# Altium footprint library PH2.0.PcbLib: 65 footprints (part 3 of 5)
Each footprint in its own frame and in the unit in brackets; x right, y up, seen from the top. Pads: shape width x height; smd on the part's side, far side on the other; paste and mask are expansions set on the pad; w line width, h text height; cw(c..) or ccw(c..) is an arc to the next point about the centre after c.
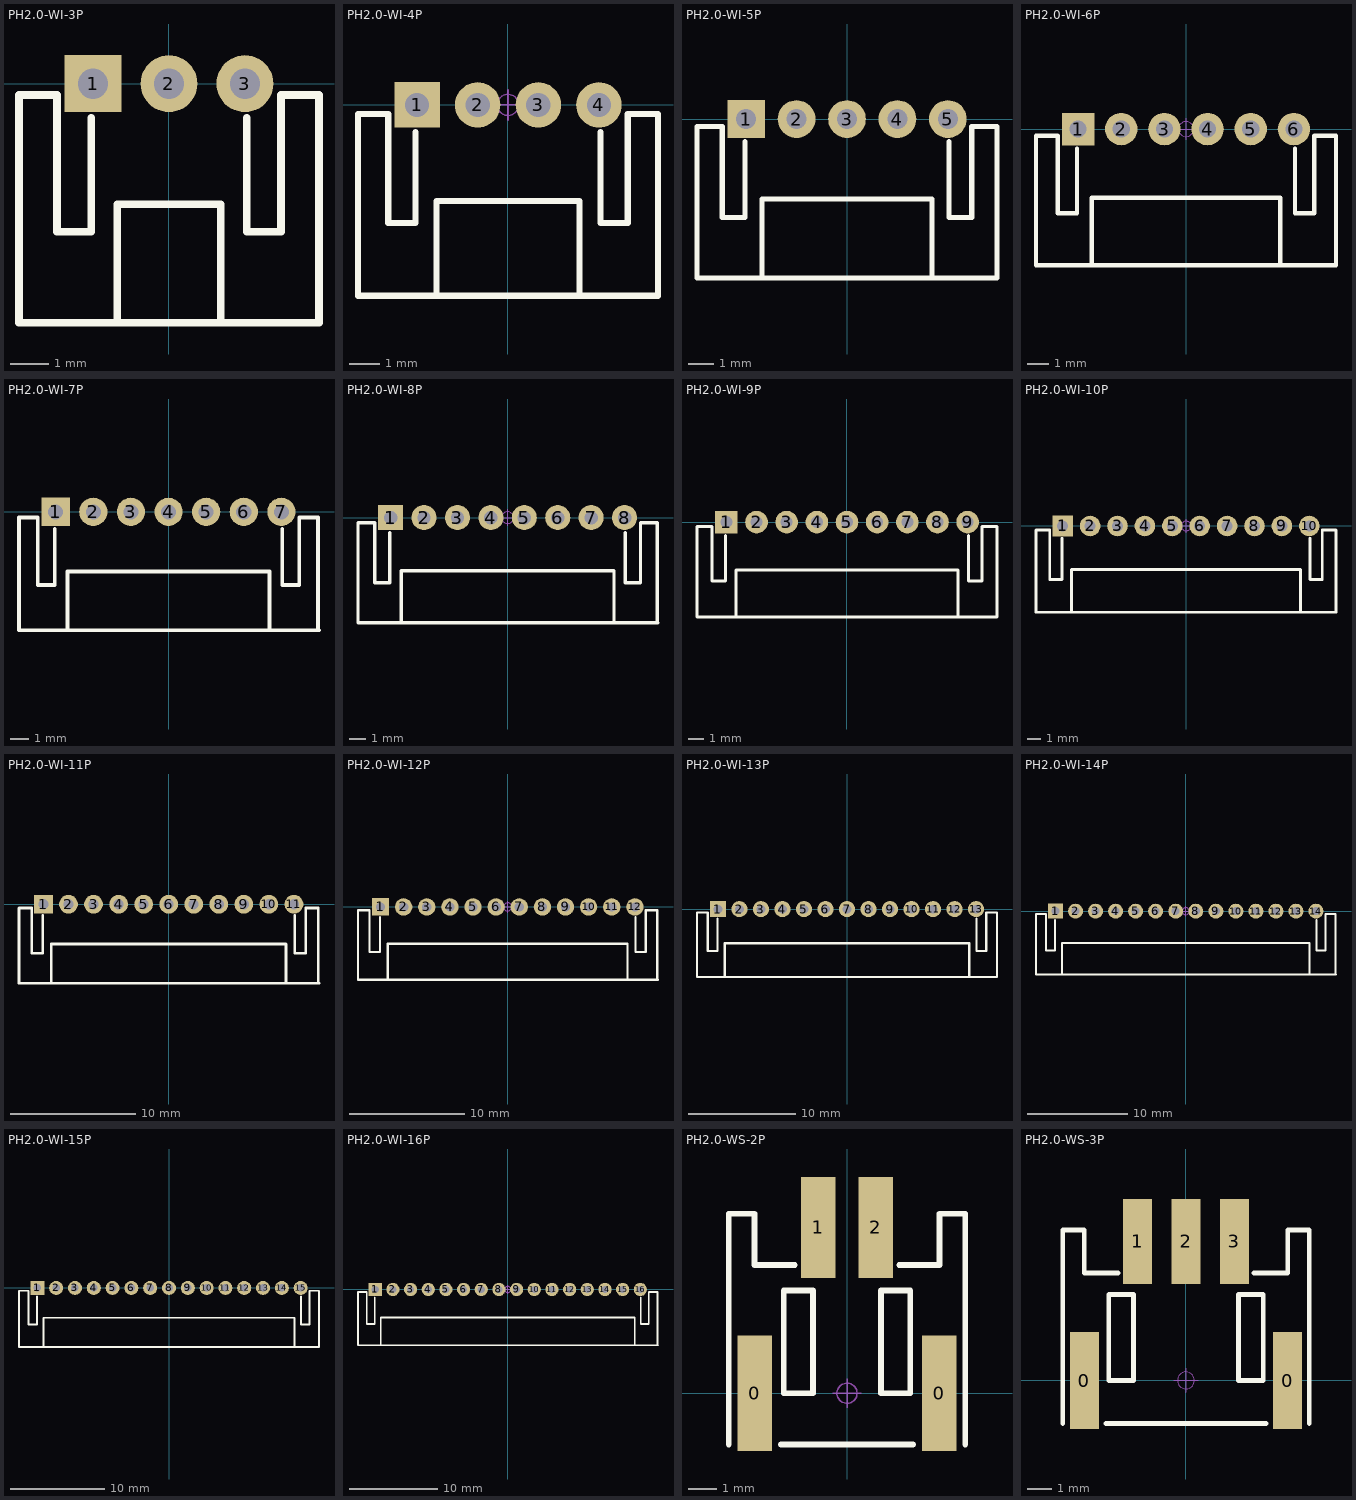
[diagram p2: the footprints below, top view; thin cyan lines are the x and y axes]

## PH2.0-WI-3P [mm] "长：7.9mm，宽：6mm，高：4.7mm"
height 10
pads (3):
  rect 1.5x1.5 hole 0.8: 1(-2,0)
  round 1.5 hole 0.8: 2(0,0) 3(2,0)
Top Overlay:
  lines w0.203: -2.05,-0.9 -2.05,-3.9 -2.95,-3.9 -2.95,-3.3 -2.95,-0.3 -3,-0.3 -3.95,-0.3 -3.95,-6.3 3.95,-6.3 3.95,-0.3 3,-0.3 2.95,-0.3 2.95,-3.3 2.95,-3.9 2.05,-3.9 2.05,-0.9 ; -1.365,-6.215 -1.365,-3.175 1.365,-3.175 1.365,-6.215
Mechanical 15:
  circle w0.05: c0,0 r0.35
  lines w0.05: -0.5,0 0.5,0 ; 0,-0.5 0,0.5
3D body "PH2.0-WI-3P.STEP": height 4.75, standoff -2.65, extent -3.95,-6.3 3.95,0.3

## PH2.0-WI-4P [mm] "长：9.9mm，宽：6mm，高：4.7mm"
height 10
pads (4):
  rect 1.5x1.5 hole 0.8: 1(-3,0)
  round 1.5 hole 0.8: 2(-1,0) 3(1,0) 4(3,0)
Top Overlay:
  lines w0.203: -3.05,-0.9 -3.05,-3.9 -3.95,-3.9 -3.95,-3.3 -3.95,-0.3 -4,-0.3 -4.95,-0.3 -4.95,-6.3 4.95,-6.3 4.95,-0.3 4,-0.3 3.95,-0.3 3.95,-3.3 3.95,-3.9 3.05,-3.9 3.05,-0.9 ; -2.365,-6.215 -2.365,-3.175 2.365,-3.175 2.365,-6.215
Mechanical 15:
  circle w0.05: c0,0 r0.35
  lines w0.05: -0.5,0 0.5,0 ; 0,-0.5 0,0.5
3D body "PH2.0-WI-4P.STEP": height 4.75, standoff -2.65, extent -4.95,-6.3 4.95,0.3

## PH2.0-WI-5P [mm] "长：11.9mm，宽：6mm，高：4.7mm"
height 10
pads (5):
  rect 1.5x1.5 hole 0.8: 1(-4,0)
  round 1.5 hole 0.8: 2(-2,0) 3(0,0) 4(2,0) 5(4,0)
Top Overlay:
  lines w0.203: -4.05,-0.9 -4.05,-3.9 -4.95,-3.9 -4.95,-3.3 -4.95,-0.3 -5,-0.3 -5.95,-0.3 -5.95,-6.3 5.95,-6.3 5.95,-0.3 5,-0.3 4.95,-0.3 4.95,-3.3 4.95,-3.9 4.05,-3.9 4.05,-0.9 ; -3.365,-6.215 -3.365,-3.175 3.365,-3.175 3.365,-6.215
Mechanical 15:
  circle w0.05: c0,0 r0.35
  lines w0.05: -0.5,0 0.5,0 ; 0,-0.5 0,0.5
3D body "PH2.0-WI-5P.STEP": height 4.75, standoff -2.65, extent -5.95,-6.3 5.95,0.3

## PH2.0-WI-6P [mm] "长：13.9mm，宽：6mm，高：4.7mm"
height 10
pads (6):
  rect 1.5x1.5 hole 0.8: 1(-5,0)
  round 1.5 hole 0.8: 2(-3,0) 3(-1,0) 4(1,0) 5(3,0) 6(5,0)
Top Overlay:
  lines w0.203: -5.05,-0.9 -5.05,-3.9 -5.95,-3.9 -5.95,-3.3 -5.95,-0.3 -6,-0.3 -6.95,-0.3 -6.95,-6.3 6.95,-6.3 6.95,-0.3 6,-0.3 5.95,-0.3 5.95,-3.3 5.95,-3.9 5.05,-3.9 5.05,-0.9 ; -4.365,-6.215 -4.365,-3.175 4.365,-3.175 4.365,-6.215
Mechanical 15:
  circle w0.05: c0,0 r0.35
  lines w0.05: -0.5,0 0.5,0 ; 0,-0.5 0,0.5
3D body "PH2.0-WI-6P.STEP": height 4.75, standoff -2.65, extent -6.95,-6.3 6.95,0.3

## PH2.0-WI-7P [mm] "长：15.9mm，宽：6mm，高：4.7mm"
height 10
pads (7):
  rect 1.5x1.5 hole 0.8: 1(-6,0)
  round 1.5 hole 0.8: 2(-4,0) 3(-2,0) 4(0,0) 5(2,0) 6(4,0) 7(6,0)
Top Overlay:
  lines w0.203: -6.05,-0.9 -6.05,-3.9 -6.95,-3.9 -6.95,-3.3 -6.95,-0.3 -7,-0.3 -7.95,-0.3 -7.95,-6.3 8,-6.3 ; -5.365,-6.215 -5.365,-3.175 5.365,-3.175 5.365,-6.215 ; 6.05,-0.9 6.05,-3.9 6.95,-3.9 6.95,-3.3 6.95,-0.3 7,-0.3 7.95,-0.3 7.95,-6.3
Mechanical 15:
  circle w0.05: c0,0 r0.35
  lines w0.05: -0.5,0 0.5,0 ; 0,-0.5 0,0.5
3D body "PH2.0-WI-7P.STEP": height 4.75, standoff -2.65, extent -7.95,-6.3 7.95,0.3

## PH2.0-WI-8P [mm] "长：17.9mm，宽：6mm，高：4.7mm"
height 10
pads (8):
  rect 1.5x1.5 hole 0.8: 1(-7,0)
  round 1.5 hole 0.8: 2(-5,0) 3(-3,0) 4(-1,0) 5(1,0) 6(3,0) 7(5,0) 8(7,0)
Top Overlay:
  lines w0.203: -7.05,-0.9 -7.05,-3.9 -7.95,-3.9 -7.95,-3.3 -7.95,-0.3 -8,-0.3 -8.95,-0.3 -8.95,-6.3 9,-6.3 ; -6.365,-6.215 -6.365,-3.175 6.365,-3.175 6.365,-6.215 ; 7.05,-0.9 7.05,-3.9 7.95,-3.9 7.95,-3.3 7.95,-0.3 8,-0.3 8.95,-0.3 8.95,-6.3
Mechanical 15:
  circle w0.05: c0,0 r0.35
  lines w0.05: -0.5,0 0.5,0 ; 0,-0.5 0,0.5
3D body "PH2.0-WI-8P.STEP": height 4.75, standoff -2.65, extent -8.95,-6.3 8.95,0.3

## PH2.0-WI-9P [mm] "长：19.9mm，宽：6mm，高：4.7mm"
height 10
pads (9):
  rect 1.5x1.5 hole 0.8: 1(-8,0)
  round 1.5 hole 0.8: 2(-6,0) 3(-4,0) 4(-2,0) 5(0,0) 6(2,0) 7(4,0) 8(6,0) 9(8,0)
Top Overlay:
  lines w0.203: -8.05,-0.9 -8.05,-3.9 -8.95,-3.9 -8.95,-3.3 -8.95,-0.3 -9,-0.3 -9.95,-0.3 -9.95,-6.3 9.95,-6.3 9.95,-0.3 9,-0.3 8.95,-0.3 8.95,-3.3 8.95,-3.9 8.05,-3.9 8.05,-0.9 ; -7.365,-6.215 -7.365,-3.175 7.365,-3.175 7.365,-6.215
Mechanical 15:
  circle w0.05: c0,0 r0.35
  lines w0.05: -0.5,0 0.5,0 ; 0,-0.5 0,0.5
3D body "PH2.0-WI-9P.STEP": height 4.75, standoff -2.65, extent -9.95,-6.3 9.95,0.3

## PH2.0-WI-10P [mm] "长：21.9mm，宽：6mm，高：4.7mm"
height 10
pads (10):
  rect 1.5x1.5 hole 0.8: 1(-9,0)
  round 1.5 hole 0.8: 2(-7,0) 3(-5,0) 4(-3,0) 5(-1,0) 6(1,0) 7(3,0) 8(5,0) 9(7,0) 10(9,0)
Top Overlay:
  lines w0.203: -9.05,-0.9 -9.05,-3.9 -9.95,-3.9 -9.95,-3.3 -9.95,-0.3 -10,-0.3 -10.95,-0.3 -10.95,-6.3 10.95,-6.3 10.95,-0.3 10,-0.3 9.95,-0.3 9.95,-3.3 9.95,-3.9 9.05,-3.9 9.05,-0.9 ; -8.365,-6.215 -8.365,-3.175 8.365,-3.175 8.365,-6.215
Mechanical 15:
  circle w0.05: c0,0 r0.35
  lines w0.05: -0.5,0 0.5,0 ; 0,-0.5 0,0.5
3D body "PH2.0-WI-10P.STEP": height 4.75, standoff -2.65, extent -10.95,-6.3 10.95,0.3

## PH2.0-WI-11P [mm] "长：23.9mm，宽：6mm，高：4.7mm"
height 10
pads (11):
  rect 1.5x1.5 hole 0.8: 1(-10,0)
  round 1.5 hole 0.8: 2(-8,0) 3(-6,0) 4(-4,0) 5(-2,0) 6(0,0) 7(2,0) 8(4,0) 9(6,0) 10(8,0) 11(10,0)
Top Overlay:
  lines w0.203: -10.05,-0.9 -10.05,-3.9 -10.95,-3.9 -10.95,-3.3 -10.95,-0.3 -11,-0.3 -11.95,-0.3 -11.95,-6.3 12,-6.3 ; -9.365,-6.215 -9.365,-3.175 9.365,-3.175 9.365,-6.215 ; 10.05,-0.9 10.05,-3.9 10.95,-3.9 10.95,-3.3 10.95,-0.3 11,-0.3 11.95,-0.3 11.95,-6.3
Mechanical 15:
  circle w0.05: c0,0 r0.35
  lines w0.05: -0.5,0 0.5,0 ; 0,-0.5 0,0.5
3D body "PH2.0-WI-11P.STEP": height 4.75, standoff -2.65, extent -11.95,-6.3 11.95,0.3

## PH2.0-WI-12P [mm] "长：25.9mm，宽：6mm，高：4.7mm"
height 10
pads (12):
  rect 1.5x1.5 hole 0.8: 1(-11,0)
  round 1.5 hole 0.8: 2(-9,0) 3(-7,0) 4(-5,0) 5(-3,0) 6(-1,0) 7(1,0) 8(3,0) 9(5,0) 10(7,0) 11(9,0) 12(11,0)
Top Overlay:
  lines w0.203: -11.05,-0.9 -11.05,-3.9 -11.95,-3.9 -11.95,-3.3 -11.95,-0.3 -12,-0.3 -12.95,-0.3 -12.95,-6.3 13,-6.3 ; -10.365,-6.215 -10.365,-3.175 10.365,-3.175 10.365,-6.215 ; 11.05,-0.9 11.05,-3.9 11.95,-3.9 11.95,-3.3 11.95,-0.3 12,-0.3 12.95,-0.3 12.95,-6.3
Mechanical 15:
  circle w0.05: c0,0 r0.35
  lines w0.05: -0.5,0 0.5,0 ; 0,-0.5 0,0.5
3D body "PH2.0-WI-12P.STEP": height 4.75, standoff -2.65, extent -12.95,-6.3 12.95,0.3

## PH2.0-WI-13P [mm] "长：27.9mm，宽：6mm，高：4.7mm"
height 10
pads (13):
  rect 1.5x1.5 hole 0.8: 1(-12,0)
  round 1.5 hole 0.8: 2(-10,0) 3(-8,0) 4(-6,0) 5(-4,0) 6(-2,0) 7(0,0) 8(2,0) 9(4,0) 10(6,0) 11(8,0) 12(10,0) 13(12,0)
Top Overlay:
  lines w0.203: -12.05,-0.9 -12.05,-3.9 -12.95,-3.9 -12.95,-3.3 -12.95,-0.3 -13,-0.3 -13.95,-0.3 -13.95,-6.3 13.95,-6.3 13.95,-0.3 13,-0.3 12.95,-0.3 12.95,-3.3 12.95,-3.9 12.05,-3.9 12.05,-0.9 ; -11.365,-6.215 -11.365,-3.175 11.365,-3.175 11.365,-6.215
Mechanical 15:
  circle w0.05: c0,0 r0.35
  lines w0.05: -0.5,0 0.5,0 ; 0,-0.5 0,0.5
3D body "PH2.0-WI-13P.STEP": height 4.75, standoff -2.65, extent -13.95,-6.3 13.95,0.3

## PH2.0-WI-14P [mm] "长：29.9mm，宽：6mm，高：4.7mm"
height 10
pads (14):
  rect 1.5x1.5 hole 0.8: 1(-13,0)
  round 1.5 hole 0.8: 2(-11,0) 3(-9,0) 4(-7,0) 5(-5,0) 6(-3,0) 7(-1,0) 8(1,0) 9(3,0) 10(5,0) 11(7,0) 12(9,0) 13(11,0) 14(13,0)
Top Overlay:
  lines w0.203: -13.05,-0.9 -13.05,-3.9 -13.95,-3.9 -13.95,-3.3 -13.95,-0.3 -14,-0.3 -14.95,-0.3 -14.95,-6.3 15,-6.3 ; -12.365,-6.215 -12.365,-3.175 12.365,-3.175 12.365,-6.215 ; 13.05,-0.9 13.05,-3.9 13.95,-3.9 13.95,-3.3 13.95,-0.3 14,-0.3 14.95,-0.3 14.95,-6.3
Mechanical 15:
  circle w0.05: c0,0 r0.35
  lines w0.05: -0.5,0 0.5,0 ; 0,-0.5 0,0.5
3D body "PH2.0-WI-14P.STEP": height 4.75, standoff -2.65, extent -14.95,-6.3 14.95,0.3

## PH2.0-WI-15P [mm] "长：31.9mm，宽：6mm，高：4.7mm"
height 10
pads (15):
  rect 1.5x1.5 hole 0.8: 1(-14,0)
  round 1.5 hole 0.8: 2(-12,0) 3(-10,0) 4(-8,0) 5(-6,0) 6(-4,0) 7(-2,0) 8(0,0) 9(2,0) 10(4,0) 11(6,0) 12(8,0) 13(10,0) 14(12,0) 15(14,0)
Top Overlay:
  lines w0.203: -14.05,-0.9 -14.05,-3.9 -14.95,-3.9 -14.95,-3.3 -14.95,-0.3 -15,-0.3 -15.95,-0.3 -15.95,-6.3 15.95,-6.3 15.95,-0.3 15,-0.3 14.95,-0.3 14.95,-3.3 14.95,-3.9 14.05,-3.9 14.05,-0.9 ; -13.365,-6.215 -13.365,-3.175 13.365,-3.175 13.365,-6.215
Mechanical 15:
  circle w0.05: c0,0 r0.35
  lines w0.05: -0.5,0 0.5,0 ; 0,-0.5 0,0.5
3D body "PH2.0-WI-15P.STEP": height 4.75, standoff -2.65, extent -15.95,-6.3 15.95,0.3

## PH2.0-WI-16P [mm] "长：33.9mm，宽：6mm，高：4.7mm"
height 10
pads (16):
  rect 1.5x1.5 hole 0.8: 1(-15,0)
  round 1.5 hole 0.8: 2(-13,0) 3(-11,0) 4(-9,0) 5(-7,0) 6(-5,0) 7(-3,0) 8(-1,0) 9(1,0) 10(3,0) 11(5,0) 12(7,0) 13(9,0) 14(11,0) 15(13,0) 16(15,0)
Top Overlay:
  lines w0.203: -15.05,-0.9 -15.05,-3.9 -15.95,-3.9 -15.95,-3.3 -15.95,-0.3 -16,-0.3 -16.95,-0.3 -16.95,-6.3 17,-6.3 ; -14.365,-6.215 -14.365,-3.175 14.365,-3.175 14.365,-6.215 ; 15.05,-0.9 15.05,-3.9 15.95,-3.9 15.95,-3.3 15.95,-0.3 16,-0.3 16.95,-0.3 16.95,-6.3
Mechanical 15:
  circle w0.05: c0,0 r0.35
  lines w0.05: -0.5,0 0.5,0 ; 0,-0.5 0,0.5
3D body "PH2.0-WI-16P.STEP": height 4.75, standoff -2.65, extent -16.95,-6.3 16.95,0.3

## PH2.0-WS-2P [mm] "长：8mm，宽：7.6mm，高：5.5mm"
pads (4):
  rect 1.2x4 smd: 0(-3.2,-0.006) 0(3.2,-0.006)
  rect 1.2x3.5 smd: 1(-1,5.744) 2(1,5.744)
Top Overlay:
  lines w0.2: -4.096,-1.778 -4.096,6.223 -3.207,6.223 -3.207,4.445 -1.81,4.445 ; -2.286,-1.778 2.286,-1.778 ; 1.81,4.445 3.207,4.445 3.207,6.223 4.096,6.223 4.096,-1.778 ; -2.191,0 -2.191,3.556 -1.175,3.556 -1.175,0 -2.191,0 ; 1.175,0 1.175,3.556 2.191,3.556 2.191,0 1.175,0
Mechanical 15:
  circle w0.05: c0,0 r0.35
  lines w0.05: -0.5,0 0.5,0 ; 0,-0.5 0,0.5
3D body "PH2.0 SMD-W-2P.STEP": height 5.55, standoff 0.05, extent -4,-1.65 4,6.95

## PH2.0-WS-3P [mm] "长：10mm，宽：7.6mm，高：5.5mm"
pads (5):
  rect 1.2x4 smd: 0(-4.2,-0.006) 0(4.2,-0.006)
  rect 1.2x3.5 smd: 1(-2,5.744) 2(0,5.744) 3(2,5.744)
Top Overlay:
  lines w0.2: -5.096,-1.778 -5.096,6.223 -4.207,6.223 -4.207,4.445 -2.81,4.445 ; -3.302,-1.778 3.302,-1.778 ; 2.81,4.445 4.207,4.445 4.207,6.223 5.096,6.223 5.096,-1.778 ; -3.191,0 -2.175,0 -2.175,3.556 -3.191,3.556 -3.191,0 ; 2.175,0 3.191,0 3.191,3.556 2.175,3.556 2.175,0
Mechanical 15:
  circle w0.05: c0,0 r0.35
  lines w0.05: -0.5,0 0.5,0 ; 0,-0.5 0,0.5
3D body "PH2.0 SMD-W-3P.STEP": height 5.55, standoff 0.05, extent -5,-1.65 5,6.95